# Altium schematic symbol library MPU-6500.SchLib: 1 symbol
Pins are listed as number, name and electrical type; pins without a type are passive.

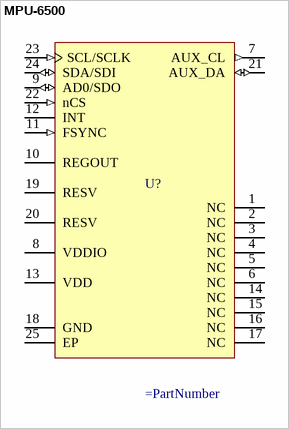
[diagram p0: symbol MPU-6500]

## MPU-6500
designator U?
pins: 1 NC "No Connect pins. Do not connect.", 2 NC "No Connect pins. Do not connect.", 3 NC "No Connect pins. Do not connect.", 4 NC "No Connect pins. Do not connect.", 5 NC "No Connect pins. Do not connect.", 6 NC "No Connect pins. Do not connect.", 7 AUX_CL (out) "I2C Master serial clock, for connecting to external sensors", 8 VDDIO (power) "Digital I/O supply voltage", 9 AD0/SDO (io), 10 REGOUT "Regulator filter capacitor connection", 11 FSYNC (in) "Frame synchronization digital input. Connect to GND if unused.", 12 INT (oc) "Interrupt digital output (totem pole or open-drain)", 13 VDD (power) "Power supply voltage and Digital I/O supply voltage", 14 NC "No Connect pins. Do not connect.", 15 NC "No Connect pins. Do not connect.", 16 NC "No Connect pins. Do not connect.", 17 NC "No Connect pins. Do not connect.", 18 GND (power) "Power supply ground", 19 RESV "Reserved. Do not connect.", 20 RESV (power) "Reserved. Connect to GND.", 21 AUX_DA (io) "I2C master serial data, for connecting to external sensors", 22 nCS (in) "Chip select (SPI mode only)", 23 SCL/SCLK (in), 24 SDA/SDI (io), 25 EP